# Altium schematic symbol library MySchlib.SchLib: 7 symbols
Pins are listed as number, name and electrical type; pins without a type are passive.

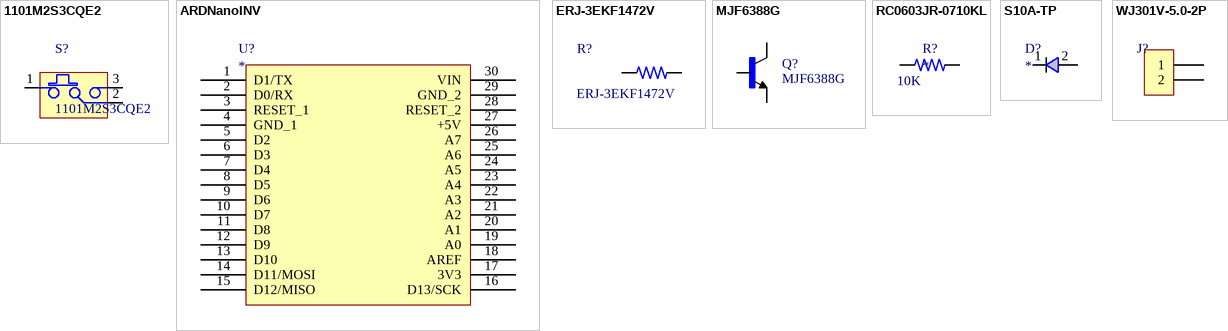
[diagram p0: symbols 1101M2S3CQE2 to WJ301V-5.0-2P]

## 1101M2S3CQE2
designator S?
Slide Switch SPDT Through Hole; MF: C&K; Package: None; Price: None; MP: 1101M2S3CQE2; Availability: Unavailable; SnapEDA_Link: https://www.snapeda.com/parts/1101M2S3CQE2/C%26K/view-part/287375/?ref=snap; Value: *; Populated: *
footprint *SW_1101M2S3CQE2
pins: 1, 2, 3

## ARDNanoINV
designator U?
footprint ARDNanoInv
pins: 1 D1/TX, 2 D0/RX, 3 RESET_1, 4 GND_1, 5 D2, 6 D3, 7 D4, 8 D5, 9 D6, 10 D7, 11 D8, 12 D9, 13 D10, 14 D11/MOSI, 15 D12/MISO, 16 D13/SCK, 17 3V3, 18 AREF, 19 A0, 20 A1, 21 A2, 22 A3, 23 A4, 24 A5, 25 A6, 26 A7, 27 +5V, 28 RESET_2, 29 GND_2, 30 VIN

## ERJ-3EKF1472V
designator R?
Res Thick Film 1.6 x 0.8 mm 14.7K Ohm 1% 0.1W_1/10W_ 100ppm/ C Molded SMD Punched Carrier T/R; MF: Panasonic; MP: ERJ-3EKF1472V; Package: 1608 Panasonic Electronic Components; SnapEDA_Link: https://www.snapeda.com/parts/ERJ-3EKF1472V/Panasonic/view-part/923197/?ref=snap; Digi-Key_Purchase_URL: https://www.digikey.com.au/product-detail/en/panasonic-electronic-components/ERJ-3EKF1472V/P14.7KHCT-ND/198164?utm_source=snapeda&utm_medium=aggregator&utm_campaign=symbol; Digi-Key_Part_Number: P14.7KHCT-ND; Value: *; Populated: *
footprint *RESC1608X55N
pins: 1, 2

## MJF6388G
designator Q?
Bipolar (BJT) Transistor NPN - Darlington 100V 10A  2W Through Hole TO-220FP; MF: ON Semiconductor; MP: MJF6388G; Price: None; Value: *; Populated: *
footprint TO-220
pins: B, C, E

## RC0603JR-0710KL
designator R?  value 10K
RES SMD 10K OHM 5% 1/10W 0603; Mf: Yageo; MP: RC0603JR-0710KL; Digi-Key Part Number: 311-10KGRTR-ND
footprint *0603
pins: 1, 2

## S10A-TP
designator D?
Diode Standard 50V 10A Surface Mount DO-214AB (HSMC); Mfr: Micro Commercial Co; MP: S10A-TP; Value: *; Digikeynumber: S10A-TPMSTR-ND
footprint *DIOM8059X265N
pins: 1 K2, 2 A2

## WJ301V-5.0-2P
designator J?  (value not drawn)
P=5.0mm Screw terminal RoHS; MF: Ningbo Kangnex Elec; MP: WJ301V-5.0-2P; populate: *
footprint WJ301V-5.0-2P
pins: 1, 2